# Altium footprint library AudioPartLib.PcbLib: 28 footprints (part 1 of 2)
Each footprint in its own frame and in the unit in brackets; x right, y up, seen from the top. Pads: shape width x height; smd on the part's side, far side on the other; paste and mask are expansions set on the pad; w line width, h text height; cw(c..) or ccw(c..) is an arc to the next point about the centre after c.
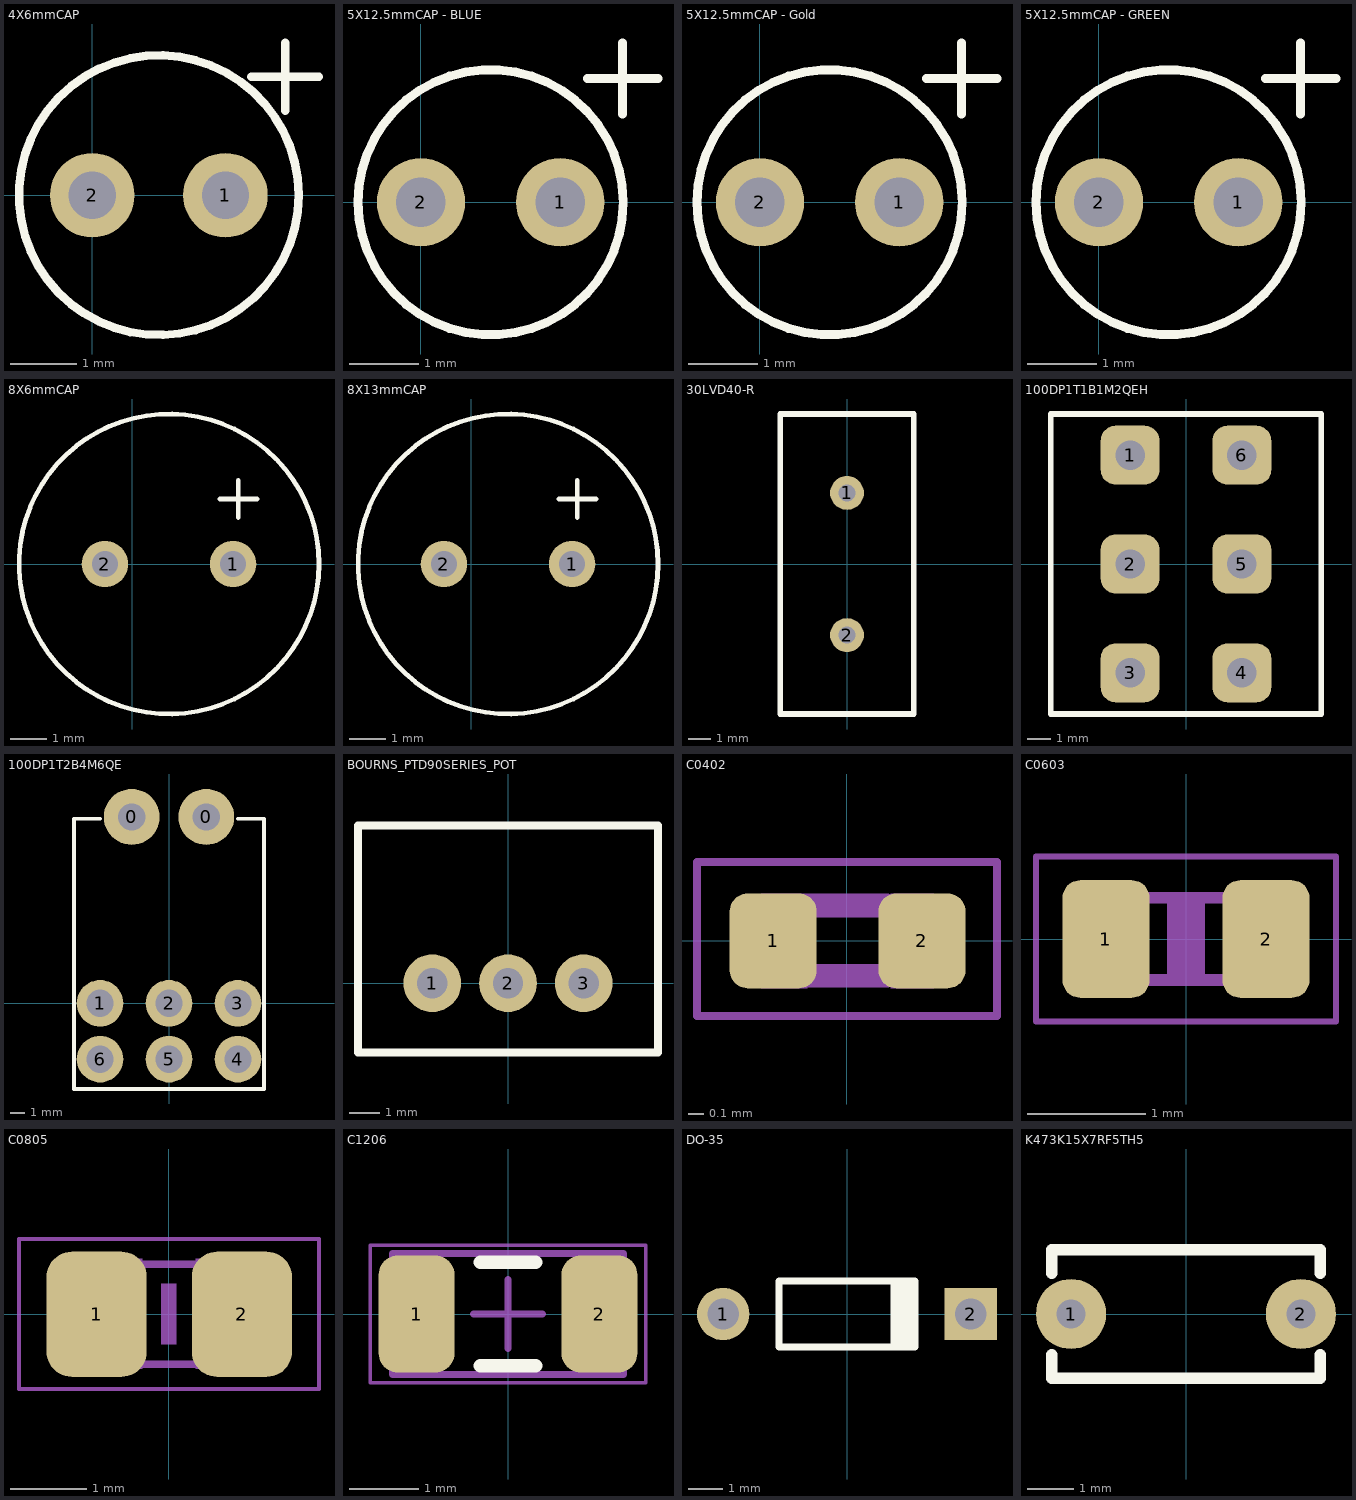
[diagram p0: the footprints below, top view; thin cyan lines are the x and y axes]

## 4X6mmCAP [mil]
pads (2):
  round 50 hole 28: 1(78.74,0) 2(0,0)
Top Overlay:
  circle w5: c39.37,0 r82.68
  lines w5: 94.06,70 134.06,70 ; 114.06,50 114.06,90
3D body: height 236.22, standoff 0, extent -38.74,-78.71 118.74,78.71

## 5X12.5mmCAP - BLUE [mil]
pads (2):
  round 50 hole 28: 1(78.74,0) 2(0,0)
Top Overlay:
  circle w5: c39.37,0 r75
  lines w5: 94.06,70 134.06,70 ; 114.06,50 114.06,90
3D body: height 492.13, standoff 0, extent -35,-75 115,75

## 5X12.5mmCAP - Gold [mil]
pads (2):
  round 50 hole 28: 1(78.74,0) 2(0,0)
Top Overlay:
  circle w5: c39.37,0 r75
  lines w5: 94.06,70 134.06,70 ; 114.06,50 114.06,90
3D body: height 492.13, standoff 0, extent -35,-75 115,75

## 5X12.5mmCAP - GREEN [mil]
pads (2):
  round 50 hole 28: 1(78.74,0) 2(0,0)
Top Overlay:
  circle w5: c39.37,0 r75
  lines w5: 94.06,70 134.06,70 ; 114.06,50 114.06,90
3D body: height 492.13, standoff 0, extent -35,-75 115,75

## 8X6mmCAP [mil]
pads (2):
  round 50 hole 28: 1(108.27,0) 2(-29.53,0)
Top Overlay:
  circle w5: c39.37,0 r161.42
  lines w5: 94.06,70 134.06,70 ; 114.06,50 114.06,90
3D body: height 236.22, standoff 0, extent -117.48,-157.43 197.48,157.44

## 8X13mmCAP [mil]
pads (2):
  round 50 hole 28: 1(108.27,0) 2(-29.53,0)
Top Overlay:
  circle w5: c39.37,0 r161.42
  lines w5: 94.06,70 134.06,70 ; 114.06,50 114.06,90
3D body: height 511.81, standoff 0, extent -117.48,-157.41 197.48,157.42

## 30LVD40-R [mil] "Ceramic Disc Capacitor Throughhole"
pads (2):
  round 60 hole 30: 1(0,125.98) 2(0,-125.98)
Top Overlay:
  lines w10: -118.11,-265.75 -118.11,265.75 118.11,265.75 118.11,-265.75 -118.11,-265.75

## 100DP1T1B1M2QEH [mm] "100DP1T1B1M2QEH"
pads (6):
  rrect50% 2.54x2.54 hole 1.27: 1(-2.415,4.7) 2(-2.415,0) 3(-2.415,-4.7) 4(2.415,-4.7) 5(2.415,0) 6(2.415,4.7)
Top Overlay:
  lines w0.254: -5.842,-6.477 5.842,-6.477 5.842,6.477 -5.842,6.477 -5.842,-6.477
3D body "100DPxT1B1M2xxx.stp": height 30.15, standoff -4.64, extent -5.715,-6.35 5.715,6.35

## 100DP1T2B4M6QE [mm] "100DP1T2B4M6QE DPDT Toggle Switch"
pads (8):
  round 3.81 hole 1.85: 0(-2.54,12.7) 0(2.54,12.7)
  round 3.175 hole 1.85: 1(-4.7,0) 2(0,0) 3(4.7,0) 4(4.7,-3.81) 5(0,-3.81) 6(-4.7,-3.81)
Top Overlay:
  lines w0.254: -4.699,12.573 -6.477,12.573 -6.477,-5.842 6.477,-5.842 6.477,12.573 4.699,12.573
3D body "100DPxT2B4M6xE.stp": height 11.56, standoff -3.04, extent -6.35,-4.444 6.35,26.826

## BOURNS_PTD90SERIES_POT [mm] "Bourns Inc PTD90 Series Potentiometers, throughhole right angle PCB MOunted"
pads (3):
  round 1.905 hole 1: 1(-2.5,0) 2(0,0) 3(2.5,0)
Top Overlay:
  lines w0.254: -4.953,-2.286 4.953,-2.286 4.953,5.207 -4.953,5.207 -4.953,-2.286
3D body "ptd901-xx15k-xxxx (1).stp": height 11.2, standoff -3.65, extent -4.8,-2.132 4.8,20.018

## C0402 [mil]
pads (2):
  rrect40% 22x24 smd: 1(-18.7,0) 2(19,0)
Mechanical 8:
  rectangle: -21.8,-12 -9.98,12
  rectangle: 11,-12 22,12
  lines w6: -9.65,-8.82 10,-8.82 ; -9.65,9 10,9
Mechanical 15:
  lines w2: -37.99,-19.02 38,-19.02 38,20 -37.99,20 -37.99,-19.02
3D body: height 19.68, standoff 0, extent -20,-10 20,10

## C0603 [mm]
pads (2):
  rrect40% 0.74x1 smd: 1(-0.68,0) 2(0.68,0)
Mechanical 6:
  rectangle: -0.16,-0.3 0.16,0.3
Mechanical 8:
  rectangle: 0.45,-0.4 0.8,0.4
  rectangle: -0.8,-0.4 -0.45,0.4
  lines w0.1: -0.45,0.35 0.45,0.35
  lines w0.102: -0.45,-0.35 0.45,-0.35
Mechanical 15:
  lines w0.051: -1.275,-0.7 -1.275,0.7 1.275,0.7 1.275,-0.7 -1.275,-0.7
3D body: height 0.8, standoff 0, extent -0.8,-0.4 0.8,0.4

## C0805 [mil]
pads (2):
  rrect50% 52x65 smd: 1(-37.4,0) 2(38,0)
Mechanical 6:
  rectangle: -3.94,-15.75 4,16
Mechanical 8:
  rectangle: -43,-28.5 -13.47,29
  rectangle: 14,-28.5 44,29
  lines w4: -15,26 15,26 ; -14.02,-25.98 15,-25.98
Mechanical 15:
  lines w2: -77.68,-38.7 78,-38.7 78,39 -77.68,39 -77.68,-38.7
3D body: height 35.43, standoff 0, extent -40,-30 40,30

## C1206 [mm]
height 1.6
pads (2):
  rrect50% 1.1x1.7 smd: 1(-1.325,0) 2(1.325,0)
Top Overlay:
  lines w0.2: -0.4,-0.75 0.4,-0.75 ; -0.4,0.75 0.4,0.75
Mechanical 13:
  lines w0.1: -1.675,-0.875 1.675,-0.875 1.675,0.875 -1.675,0.875 -1.675,-0.875
Mechanical 15:
  lines w0.05: -2,-1 2,-1 2,1 -2,1 -2,-1
  lines w0.1: -0.5,0 0.5,0 ; 0,-0.5 0,0.5
3D body: height 1.6, standoff 0, extent 1.125,-0.875 1.675,0.875
3D body: height 1.6, standoff 0, extent -1.675,-0.875 -1.125,0.875
3D body: height 1.6, standoff 0, extent -1.125,-0.875 1.125,0.875

## DO-35 [mm] "Diode, Axial; Body 3.8 x 1.9 mm (LxDia. max), Lead Dia. 0.53 mm (max)"
height 1.9
pads (2):
  round 1.5 hole 0.9: 1(-3.55,0)
  rect 1.5x1.5 hole 0.9: 2(3.55,0)
Top Overlay:
  rectangle: 1.25,-0.95 2.05,0.95
  lines w0.2: 1.95,-0.95 -1.95,-0.95 -1.95,0.95 1.95,0.95

## K473K15X7RF5TH5 [mil] "K473K15X7RF5TH5 Dipped Ceramic Cap VIshay BC Components"
pads (2):
  round 60 hole 25: 1(-98.43,0) 2(98.43,0)
Top Overlay:
  lines w10: -115,-35 -115,-55 115,-55 115,-35 ; -115,35 -115,55 115,55 115,35
3D body "User Library-caprr500w50l400t250h654.step": height 257.48, standoff -98.43, extent -108.27,-49.21 108.27,49.21